# Altium schematic symbol library ESD7008MUTAG.SchLib: 1 symbol
Pins are listed as number, name and electrical type; pins without a type are passive.

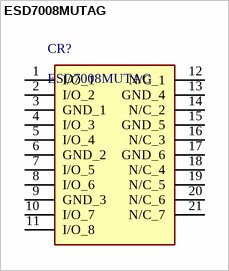
[diagram p0: symbol ESD7008MUTAG]

## ESD7008MUTAG
designator CR?
Description; Manufacturer_Name: onsemi; Copyright: Copyright (C) 2026 Ultra Librarian. All rights reserved.; Manufacturer_Part_Number: ESD7008MUTAG; RefDes: RefDes; Type: Type
pins: 1 I/O_1, 2 I/O_2, 3 GND_1, 4 I/O_3, 5 I/O_4, 6 GND_2, 7 I/O_5, 8 I/O_6, 9 GND_3, 10 I/O_7, 11 I/O_8, 12 N/C_1, 13 GND_4, 14 N/C_2, 15 GND_5, 16 N/C_3, 17 GND_6, 18 N/C_4, 19 N/C_5, 20 N/C_6, 21 N/C_7